# EAGLE library part SPI_FLASH-X25XX (library project library)
8pin SPI Flash series x25xx. Works with devices like W25X32 and BR25L32
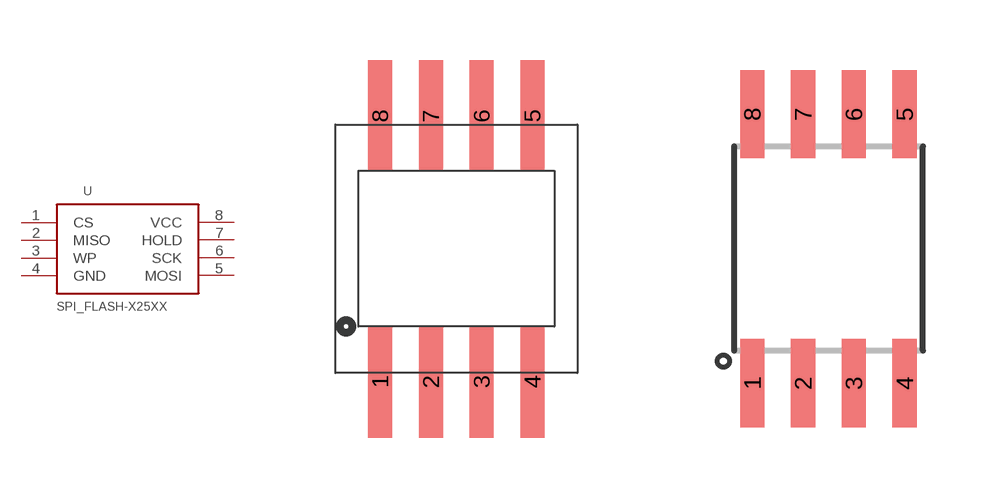
[diagram p3: symbol with the pads of SO08N/W; footprints SO08N/W, SO08-EIAJ]

Designator prefix U

## SPI_FLASH-X25XXSMD  [SO08N/W]
1  CS
2  MISO
3  WP
4  GND
5  MOSI
6  SCK
7  HOLD
8  VCC

## SPI_FLASH-X25XXSMD1 (PROD_ID: IC-09109)  [SO08-EIAJ]
Pads as for SO08N/W

## Footprint SO08N/W (pad centres in mm)
Small Outline Package Fits JEDEC packages (narrow SOIC-8)
smd 0.6 x 2.8: 1 -1.905,-3.325; 2 -0.635,-3.325; 3 0.635,-3.325; 4 1.905,-3.325; 5 1.905,3.325; 6 0.635,3.325; 7 -0.635,3.325; 8 -1.905,3.325

## Footprint SO08-EIAJ (pad centres in mm)
Fits EIAJ packages (wide version of the SOIC-8).
smd 0.61 x 2.21: 1 -1.905,-3.378; 2 -0.635,-3.378; 3 0.635,-3.378; 4 1.905,-3.378; 5 1.905,3.353; 6 0.635,3.353; 7 -0.635,3.353; 8 -1.905,3.353